# EAGLE library part 612X2620621 (library Wire-to-Board (rev18a))
WR-BHD 2.54mm Male SMT Box Header High Temperature, 26 Pins=>Code : Con_WTB_BHD_2.54_Male_SMT_612X2620621(X=0;X=3) <http://katalog.we-online.de/media/thumbs2/eican/thb_Con_WTB_BHD_2.54_Male_SMT_6120xx20621_pf2.jpg> 6123XX20621: http://katalog.we-online.de/en/em/BHD_2_54_SMT_MALE_BOX_HEADER_REEL_6123XX20621 6120XX20621: http://katalog.we-online.de/en/em/612_0xx_206_21 Created 2014-06-05, Karrer Zheng 2014 (C) Würth Elektronik
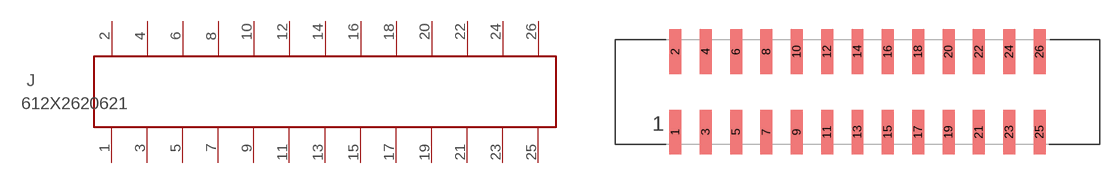
[diagram p106: symbol with the pads of 612X2620621; footprint 612X2620621]

Designator prefix J

## 612X2620621  [612X2620621]
1  1  pas
2  2  pas
3  3  pas
4  4  pas
5  5  pas
6  6  pas
7  7  pas
8  8  pas
9  9  pas
10  10  pas
11  11  pas
12  12  pas
13  13  pas
14  14  pas
15  15  pas
16  16  pas
17  17  pas
18  18  pas
19  19  pas
20  20  pas
21  21  pas
22  22  pas
23  23  pas
24  24  pas
25  25  pas
26  26  pas

## Footprint 612X2620621 (pad centres in mm)
WR-BHD 2.54mm Male SMT Box Header High Temperature, 26 pins
smd 1 x 3.75: 1 -15.24,-3.375; 2 -15.24,3.375; 3 -12.7,-3.375; 4 -12.7,3.375; 5 -10.16,-3.375; 6 -10.16,3.375; 7 -7.62,-3.375; 8 -7.62,3.375; 9 -5.08,-3.375; 10 -5.08,3.375; 11 -2.54,-3.375; 12 -2.54,3.375; 13 0,-3.375; 14 0,3.375; 15 2.54,-3.375; 16 2.54,3.375; 17 5.08,-3.375; 18 5.08,3.375; 19 7.62,-3.375; 20 7.62,3.375; 21 10.16,-3.375; 22 10.16,3.375; 23 12.7,-3.375; 24 12.7,3.375; 25 15.24,-3.375; 26 15.24,3.375